# Altium footprint library SOT.PcbLib: 1 footprints
Each footprint in its own frame and in the unit in brackets; x right, y up, seen from the top. Pads: shape width x height; smd on the part's side, far side on the other; paste and mask are expansions set on the pad; w line width, h text height; cw(c..) or ccw(c..) is an arc to the next point about the centre after c.
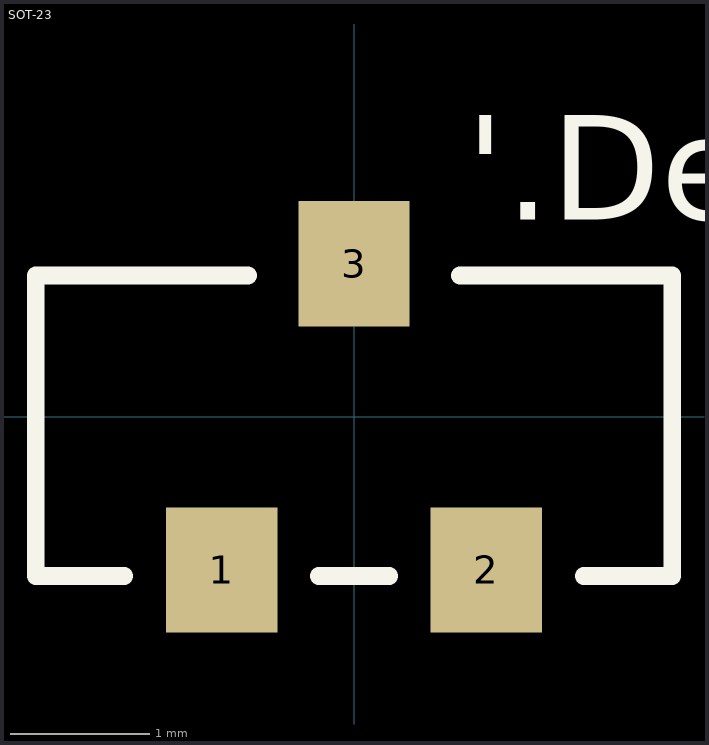
[diagram p0: the footprint, top view; thin cyan lines are the x and y axes]

## SOT-23 [mm]
pads (3):
  rect 0.8x0.9 smd: 1(-0.95,-1.1) 2(0.95,-1.1) 3(0,1.1)
Top Overlay:
  lines w0.127: -1.651,-1.143 -2.286,-1.143 -2.286,1.016 -0.762,1.016 ; -0.254,-1.143 0.254,-1.143 ; 0.762,1.016 2.286,1.016 2.286,-1.143 1.651,-1.143
  text "'.Designator'" at 0.802,1.416 h0.75